# EAGLE library part DS1232LPS-2 (library doz)
S08 superviser
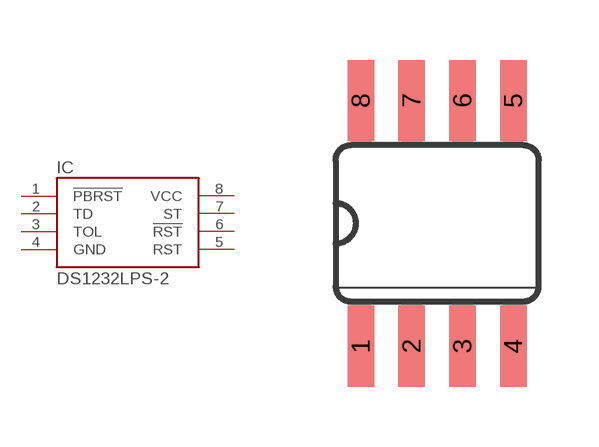
[diagram p0: symbol with the pads of SO08; footprint SO08]

Designator prefix IC

## DS1232LPS-2  [SO08]
1  !PBRST  in
2  TD  in
3  TOL  in
4  GND  pwr
5  RST  out
6  !RST  out
7  ST  in
8  VCC  pwr

## Footprint SO08 (pad centres in mm)
SOIC 150 mil
smd 0.66 x 2.032: 1 -1.905,-3.073; 2 -0.635,-3.073; 3 0.635,-3.073; 4 1.905,-3.073; 5 1.905,3.073; 6 0.635,3.073; 7 -0.635,3.073; 8 -1.905,3.073